# EAGLE library part SP725ABTG (library 1)
Littelfuse TVS Diode Array SPA SP725.pdf <http://www.littelfuse.com/~/media/Files/Littelfuse/Technical%20Resources/Documents/Data%20Sheets/Littelfuse_TVS_Diode_Array_SPA_SP725.pdf>
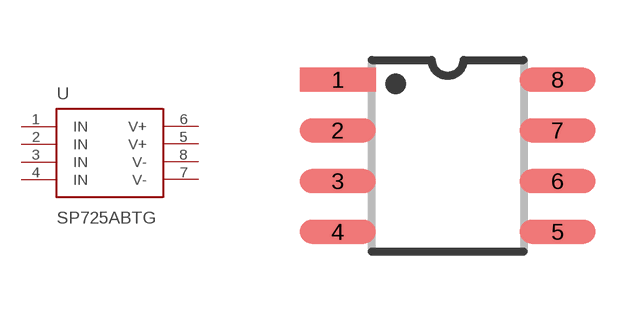
[diagram p10: symbol with the pads of SOIC-8; footprint SOIC-8]

Designator prefix U

## SP725ABTG  [SOIC-8]
1  IN
2  IN
3  IN
4  IN
5  V+
6  V+
7  V-
8  V-

## Footprint SOIC-8 (pad centres in mm)
SOIC-8
smd 1.9 x 0.6: 1 -2.75,1.905; 2 -2.75,0.635; 3 -2.75,-0.635; 4 -2.75,-1.905; 5 2.75,-1.905; 6 2.75,-0.635; 7 2.75,0.635; 8 2.75,1.905